# Altium integrated library Connectors.IntLib: 10 symbols
Pins are listed as number, name and electrical type; pins without a type are passive.

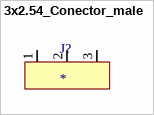
[diagram p0: symbol 3x2.54_Conector_male]

## 3x2.54_Conector_male
designator J?
footprint 3x2.54_Connector_male
pins: 1, 2, 3


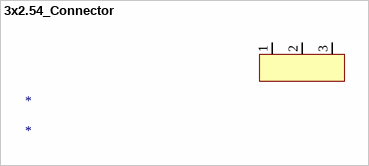
[diagram p1: symbol 3x2.54_Connector]

## 3x2.54_Connector
designator *
footprint 2.54_Connector_x3_female
pins: 1, 2, 3


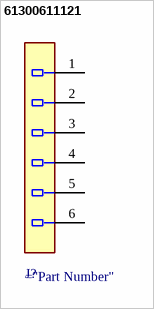
[diagram p2: symbol 61300611121]

## 61300611121
designator J?  (value not drawn)
footprint Wurth_61300611121_0
pins: 1, 2, 3, 4, 5, 6


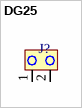
[diagram p3: symbol DG25]

## DG25
designator J?, comment DEGSON  (value not drawn)
footprint DEGSON_DG25
pins: 1, 2


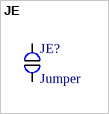
[diagram p4: symbol JE]

## JE
designator JE?, comment Jumper
footprint JE
pins: 1, 2


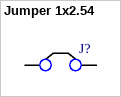
[diagram p5: symbol Jumper 1x2.54]

## Jumper 1x2.54
designator J?  (value not drawn)
footprint Jumper_2.54
pins: 1, 2


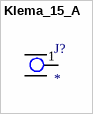
[diagram p6: symbol Klema_15_A]

## Klema_15_A
designator J?
footprint Klema_PCB_15A
pins: 1 0


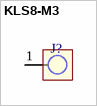
[diagram p7: symbol KLS8-M3]

## KLS8-M3
designator J?  (value not drawn)
footprint KLS8-M3
pins: 1


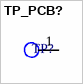
[diagram p8: symbol TP_PCB?]

## TP_PCB?
designator TP?, comment Test_Point_PCB  (value not drawn)
Test_Point
footprint Test_Point
footprint TEST_POINT_CONN
pins: 1 G9


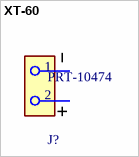
[diagram p9: symbol XT-60]

## XT-60
designator J?, comment PRT-10474
XT60 CONNECTORS MALE/FEMALE PAIR
footprint XT-60
text: 1; 2